# Altium footprint library BITK210.PcbLib: 1 footprints
Each footprint in its own frame and in the unit in brackets; x right, y up, seen from the top. Pads: shape width x height; smd on the part's side, far side on the other; paste and mask are expansions set on the pad; w line width, h text height; cw(c..) or ccw(c..) is an arc to the next point about the centre after c.
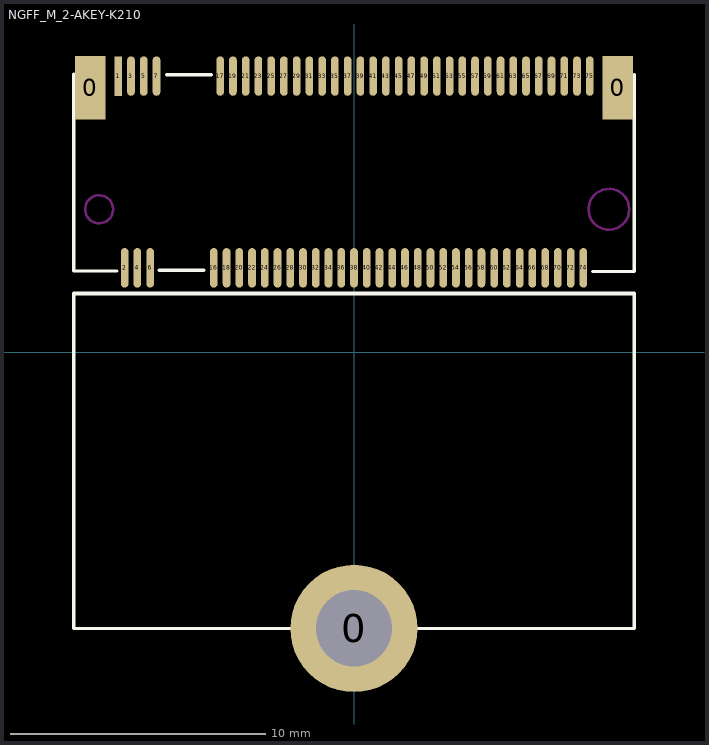
[diagram p0: the footprint, top view; thin cyan lines are the x and y axes]

## NGFF_M_2-AKEY-K210 [mm] "NGFF_M_2"
pads (70):
  rect 1.2x2.5 smd: 0(-10.35,10.38) 0(10.35,10.38)
  round 5 hole 3: 0(0,-10.837)
  rect 0.3x1.55 smd: 1(-9.25,10.837)
  oval 0.3x1.55 smd: 2(-9,3.313) 3(-8.75,10.837) 4(-8.5,3.313) 5(-8.25,10.837) 6(-8,3.313) 7(-7.75,10.837) 16(-5.5,3.313) 17(-5.25,10.837) 18(-5,3.313) 19(-4.75,10.837) 20(-4.5,3.313) 21(-4.25,10.837) 22(-4,3.313) 23(-3.75,10.837) 24(-3.5,3.313) 25(-3.25,10.837) 26(-3,3.313) 27(-2.75,10.837) 28(-2.5,3.313) 29(-2.25,10.837) 30(-2,3.313) 31(-1.75,10.837) 32(-1.5,3.313) 33(-1.25,10.837) 34(-1,3.313) 35(-0.75,10.837) 36(-0.5,3.313) 37(-0.25,10.837) 38(0,3.313) 39(0.25,10.837) 40(0.5,3.313) 41(0.75,10.837) 42(1,3.313) 43(1.25,10.837) 44(1.5,3.313) 45(1.75,10.837) 46(2,3.313) 47(2.25,10.837) 48(2.5,3.313) 49(2.75,10.837) 50(3,3.313) 51(3.25,10.837) 52(3.5,3.313) 53(3.75,10.837) 54(4,3.313) 55(4.25,10.837) 56(4.5,3.313) 57(4.75,10.837) 58(5,3.313) 59(5.25,10.837) 60(5.5,3.313) 61(5.75,10.837) 62(6,3.313) 63(6.25,10.837) 64(6.5,3.313) 65(6.75,10.837) 66(7,3.313) 67(7.25,10.837) 68(7.5,3.313) 69(7.75,10.837) 70(8,3.313) 71(8.25,10.837) 72(8.5,3.313) 73(8.75,10.837) 74(9,3.313) 75(9.25,10.837)
Top Overlay:
  lines w0.127: -11,2.313 11,2.313 ; -11,3.192 -9.305,3.192 ; -11,3.217 -11,10.917 ; -7.637,3.217 -5.885,3.217 ; -7.358,10.888 -5.605,10.888 ; 9.364,3.167 11,3.167 ; 11,3.188 11,10.888 ; -11,-10.837 11,-10.837 11,2.287 -11,2.287 -11,-10.837
Keep-Out Layer:
  circle w0.1: c-10,5.61 r0.55
  circle w0.1: c10,5.61 r0.8